# EAGLE library part DAC8532IDGKR (library DAC8532IDGKR)
16-Bit, Dual Channel, Low Power D-to-A Converter W/ Serial I/F and Rail-to-Rail Voltage Output Source: Datasheet <http://www.ti.com/lit/gpn/DAC8532>
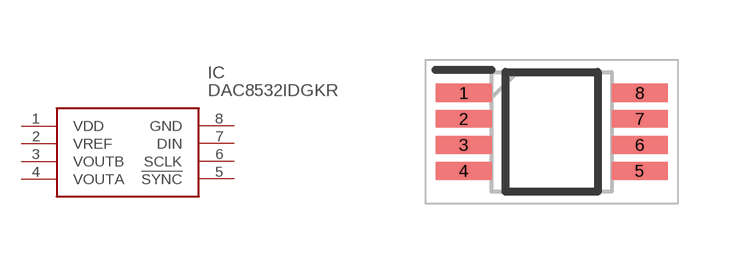
[diagram p0: symbol with the pads of SOP65P490X110-8N; footprint SOP65P490X110-8N]

Designator prefix IC

## DAC8532IDGKR (Description: 16-Bit, Dual Channel, Low Power D-to-A Converter W/ Serial I/F and Rail-to-Rail Voltage Output; Height: 1.1mm; Manufacturer_Name: Texas Instruments; Manufacturer_Part_Number: DAC8532IDGKR; Mouser_Part_Number: 595-DAC8532IDGKR; Mouser_Price-Stock: https://www.mouser.co.uk/ProductDetail/Texas-Instruments/DAC8532IDGKR?qs=vul0MlC%2Fa1cATiqpODe80A%3D%3D)  [SOP65P490X110-8N]
1  VDD
2  VREF
3  VOUTB
4  VOUTA
5  !SYNC
6  SCLK
7  DIN
8  GND

## Footprint SOP65P490X110-8N (pad centres in mm)
DGK (S-PDSO-G8)
smd 1.4 x 0.45: 1 -2.2,0.975; 2 -2.2,0.325; 3 -2.2,-0.325; 4 -2.2,-0.975; 5 2.2,-0.975; 6 2.2,-0.325; 7 2.2,0.325; 8 2.2,0.975